# Altium schematic symbol library parts.SCHLIB: 13 symbols
Pins are listed as number, name and electrical type; pins without a type are passive.

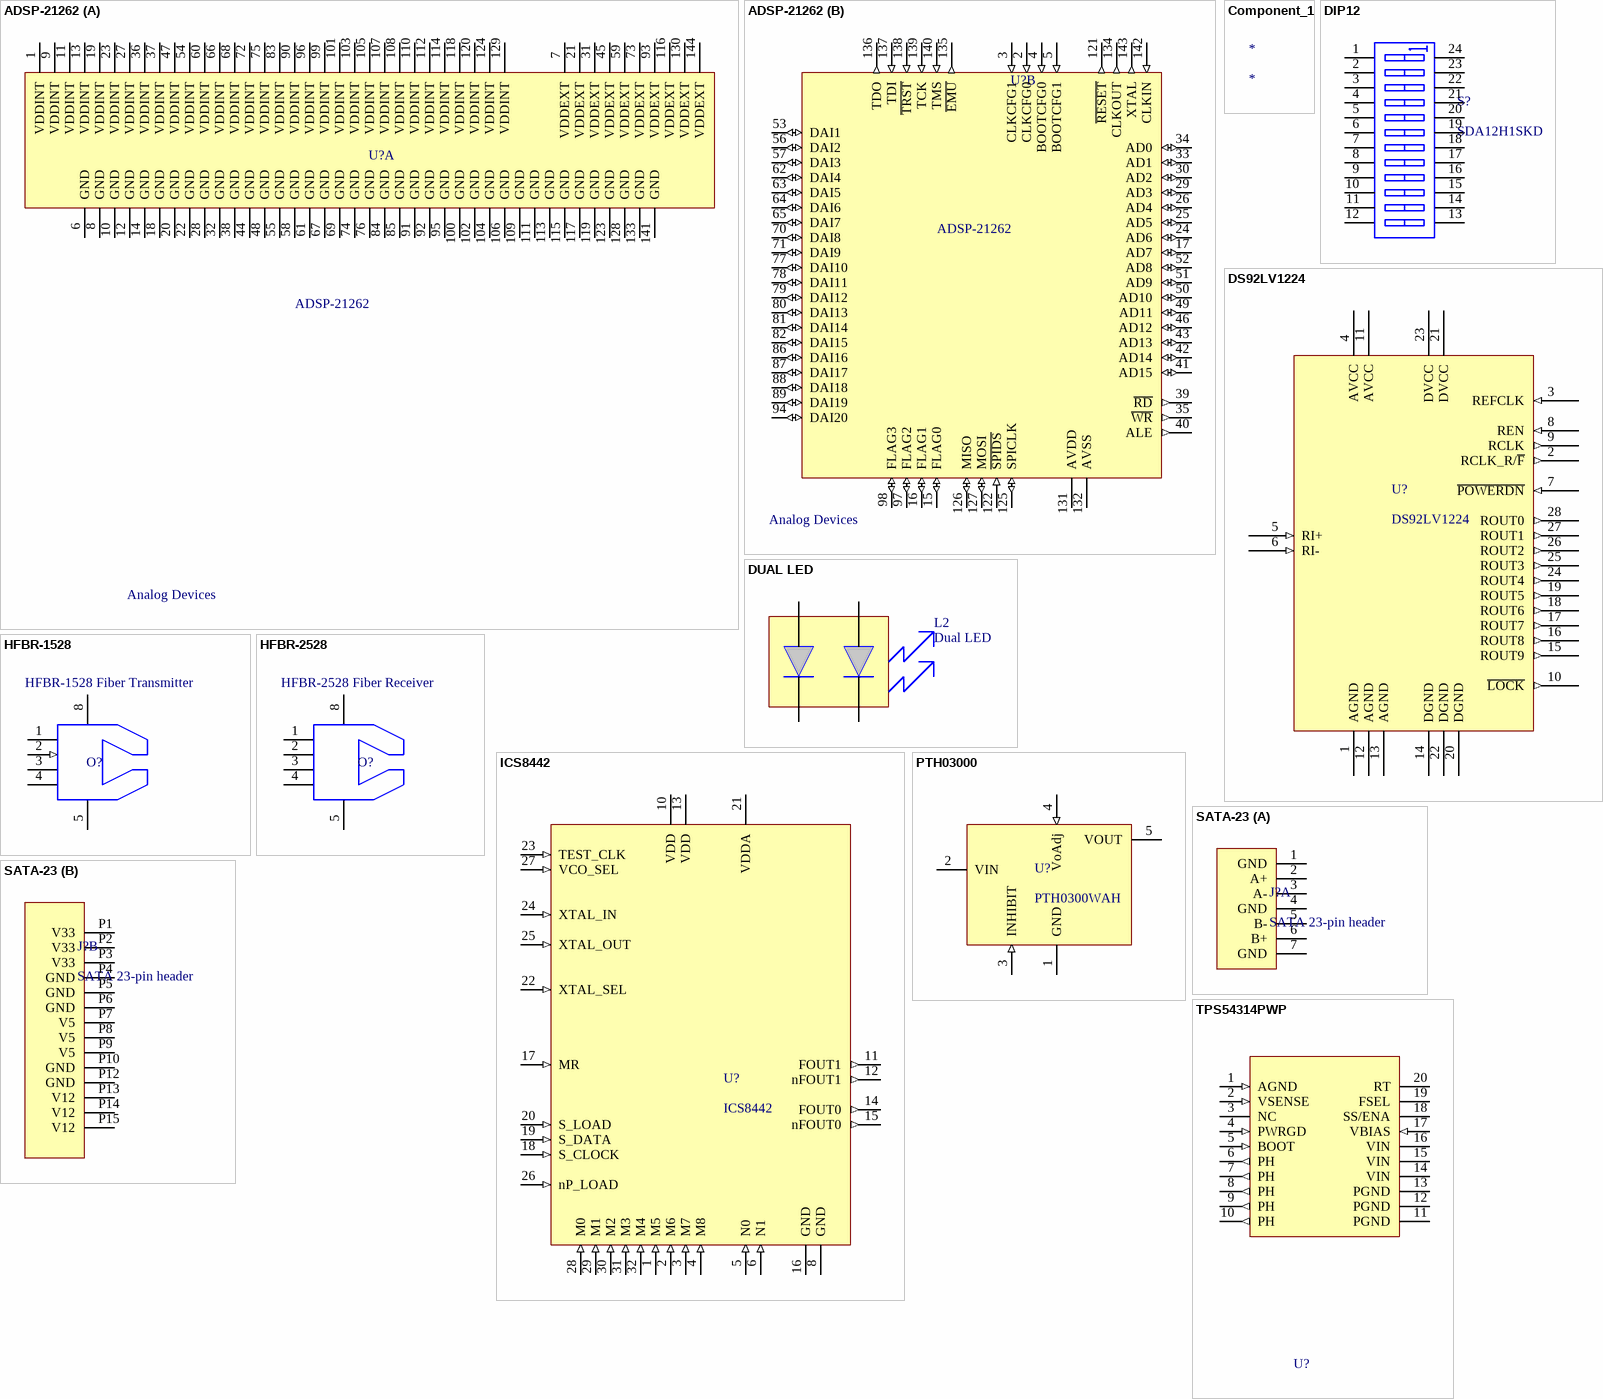
[diagram p0: symbols ADSP-21262 to TPS54314PWP]

## ADSP-21262
designator U?  Vendor: Analog Devices
SHARC 200 MHz 32-bit floating-point SIMD DSP
footprint F-QFP20X20-G144/N
part A pins: 1 VDDINT (power), 6 GND (power), 7 VDDEXT (power), 8 GND (power), 9 VDDINT (power), 10 GND (power), 11 VDDINT (power), 12 GND (power), 13 VDDINT (power), 14 GND (power), 18 GND (power), 19 VDDINT (power), 20 GND (power), 21 VDDEXT (power), 22 GND (power), 23 VDDINT (power), 27 VDDINT (power), 28 GND (power), 31 VDDEXT (power), 32 GND (power), 36 VDDINT (power), 37 VDDINT (power), 38 GND (power), 44 GND (power), 45 VDDEXT (power), 47 VDDINT (power), 48 GND (power), 54 VDDINT (power), 55 GND (power), 58 GND (power), 59 VDDEXT (power), 60 VDDINT (power), 61 GND (power), 66 VDDINT (power), 67 GND (power), 68 VDDINT (power), 69 GND (power), 72 VDDINT (power), 73 VDDEXT (power), 74 GND (power), 75 VDDINT (power), 76 GND (power), 83 VDDINT (power), 84 GND (power), 85 GND (power), 90 VDDINT (power), 91 GND (power), 92 GND (power), 93 VDDEXT (power), 95 GND (power), 96 VDDINT (power), 99 VDDINT (power), 100 GND (power), 101 VDDINT (power), 102 GND (power), 103 VDDINT (power), 104 GND (power), 105 VDDINT (power), 106 GND (power), 107 VDDINT (power), 108 VDDINT (power), 109 GND (power), 110 VDDINT (power), 111 GND (power), 112 VDDINT (power), 113 GND (power), 114 VDDINT (power), 115 GND (power), 116 VDDEXT (power), 117 GND (power), 118 VDDINT (power), 119 GND (power), 120 VDDINT (power), 123 GND (power), 124 VDDINT (power), 128 GND (power), 129 VDDINT (power), 130 VDDEXT (power), 133 GND (power), 141 GND (power), 144 VDDEXT (power)
part B pins: 2 CLKCFG0 (in), 3 CLKCFG1 (in), 4 BOOTCFG0 (in), 5 BOOTCFG1 (in), 15 FLAG0 (io), 16 FLAG1 (io), 17 AD7 (io), 24 AD6 (io), 25 AD5 (io), 26 AD4 (io), 29 AD3 (io), 30 AD2 (io), 33 AD1 (io), 34 AD0 (io), 35 ~{WR} (out), 39 ~{RD} (out), 40 ALE (out), 41 AD15 (io), 42 AD14 (io), 43 AD13 (io), 46 AD12 (io), 49 AD11 (io), 50 AD10 (io), 51 AD9 (io), 52 AD8 (io), 53 DAI1 (io), 56 DAI2 (io), 57 DAI3 (io), 62 DAI4 (io), 63 DAI5 (io), 64 DAI6 (io), 65 DAI7 (io), 70 DAI8 (io), 71 DAI9 (io), 77 DAI10 (io), 78 DAI11 (io), 79 DAI12 (io), 80 DAI13 (io), 81 DAI14 (io), 82 DAI15 (io), 86 DAI16 (io), 87 DAI17 (io), 88 DAI18 (io), 89 DAI19 (io), 94 DAI20 (io), 97 FLAG2 (io), 98 FLAG3 (io), 121 ~{RESET} (out), 122 ~{SPIDS} (in), 125 SPICLK (io), 126 MISO (io), 127 MOSI (io), 131 AVDD (power), 132 AVSS (power), 134 CLKOUT (out), 135 ~{EMU} (out), 136 TDO (out), 137 TDI (in), 138 ~{TRST} (in), 139 TCK (in), 140 TMS (in), 142 CLKIN (in), 143 XTAL (out)

## Component_1
designator *

## DIP12
designator S?, comment SDA12H1SKD
pins: 1 A1, 2 A2, 3 A3, 4 A4, 5 A5, 6 A6, 7 A7, 8 A8, 9 A9, 10 A10, 11 A11, 12 A12, 13 B12, 14 B11, 15 B10, 16 B9, 17 B8, 18 B7, 19 B6, 20 B5, 21 B4, 22 B3, 23 B2, 24 B1

## DS92LV1224
designator U?
30-66 MHz 10-Bit Bus LVDS Deserializer
footprint SSO-G28/E4.3 (SSOP; 28 Leads; Body Width 5.3 mm; Pitch 0.65 mm)
pins: 1 AGND (power), 2 RCLK_R/~{F} (out), 3 REFCLK (in), 4 AVCC (power), 5 RI+ (in), 6 RI- (in), 7 ~{POWERDN} (in), 8 REN (in), 9 RCLK (out), 10 ~{LOCK} (out), 11 AVCC (power), 12 AGND (power), 13 AGND (power), 14 DGND (power), 15 ROUT9 (out), 16 ROUT8 (out), 17 ROUT7 (out), 18 ROUT6 (out), 19 ROUT5 (out), 20 DGND (power), 21 DVCC (power), 22 DGND (power), 23 DVCC (power), 24 ROUT4 (out), 25 ROUT3 (out), 26 ROUT2 (out), 27 ROUT1 (out), 28 ROUT0 (out)

## DUAL LED
designator L2, comment Dual LED
footprint LUMEX DUAL RT-ANG LED (Lumex Dual Right-angle LED holder for part SSF-LXH2100XX)
pins: 1 A1, 2, 3 A2, 4 C2

## HFBR-1528
designator O?, comment HFBR-1528 Fiber Transmitter
Low-cost fiber transmitter; Vendor: Agilent
footprint HPVL
pins: 1 (power), 2 (in), 3 (power), 4 (power), 5 (power), 8 (power)

## HFBR-2528
designator O?, comment HFBR-2528 Fiber Receiver
Low-cost fiber receiver; Vendor: Agilent
footprint HPVL
pins: 1 (power), 2 (power), 3 (power), 4 (power), 5 (power), 8 (power)

## ICS8442
designator U?
700 MHx Crystal Oscillator-todifferential LVDS Freq Synth
footprint QFP7x7-G32/N (32-Pin Plastic Thin Quad Flat Pack (TFQP))
pins: 1 M5 (in), 2 M6 (in), 3 M7 (in), 4 M8 (in), 5 N0 (in), 6 N1 (in), 8 GND (power), 10 VDD (power), 11 FOUT1 (out), 12 nFOUT1 (out), 13 VDD (power), 14 FOUT0 (out), 15 nFOUT0 (out), 16 GND (power), 17 MR (in), 18 S_CLOCK (in), 19 S_DATA (in), 20 S_LOAD (in), 21 VDDA (power), 22 XTAL_SEL (in), 23 TEST_CLK (in), 24 XTAL_IN (in), 25 XTAL_OUT (in), 26 nP_LOAD (in), 27 VCO_SEL (in), 28 M0 (in), 29 M1 (in), 30 M2 (in), 31 M3 (in), 32 M4 (in)

## PTH03000
designator U?, comment PTH0300WAH
footprint TI EUS (Package for TI PTH03000W)
pins: 1 GND (power), 2 VIN (power), 3 INHIBIT (in), 4 VoAdj (in), 5 VOUT (power)

## SATA-23
designator J?, comment SATA 23-pin header
footprint MOLEX 87713-1001 (Molex Serial ATA Backplane Std. Height)
part A pins: 1 GND, 2 A+, 3 A-, 4 GND, 5 B-, 6 B+, 7 GND
part B pins: P1 V33, P2 V33, P3 V33, P4 GND, P5 GND, P6 GND, P7 V5, P8 V5, P9 V5, P10 GND, P12 GND, P13 V12, P14 V12, P15 V12

## TPS54314PWP
designator U?
3-6V input 3A out Buck converter
footprint PWP PowerPad -20
pins: 1 AGND (in), 2 VSENSE (in), 3 NC, 4 PWRGD (in), 5 BOOT (in), 6 PH (out), 7 PH (out), 8 PH (out), 9 PH (out), 10 PH (out), 11 PGND (power), 12 PGND (power), 13 PGND (power), 14 VIN (power), 15 VIN (power), 16 VIN (power), 17 VBIAS (in), 18 SS/ENA, 19 FSEL, 20 RT, P0 (power) hidden to GND, P1 (power) hidden to GND, P2 (power) hidden to GND, P3 (power) hidden to GND, P4 (power) hidden to GND, P5 (power) hidden to GND, P6 (power) hidden to GND, P7 (power) hidden to GND, P8 (power) hidden to GND, P9 (power) hidden to GND, P10 (power) hidden to GND

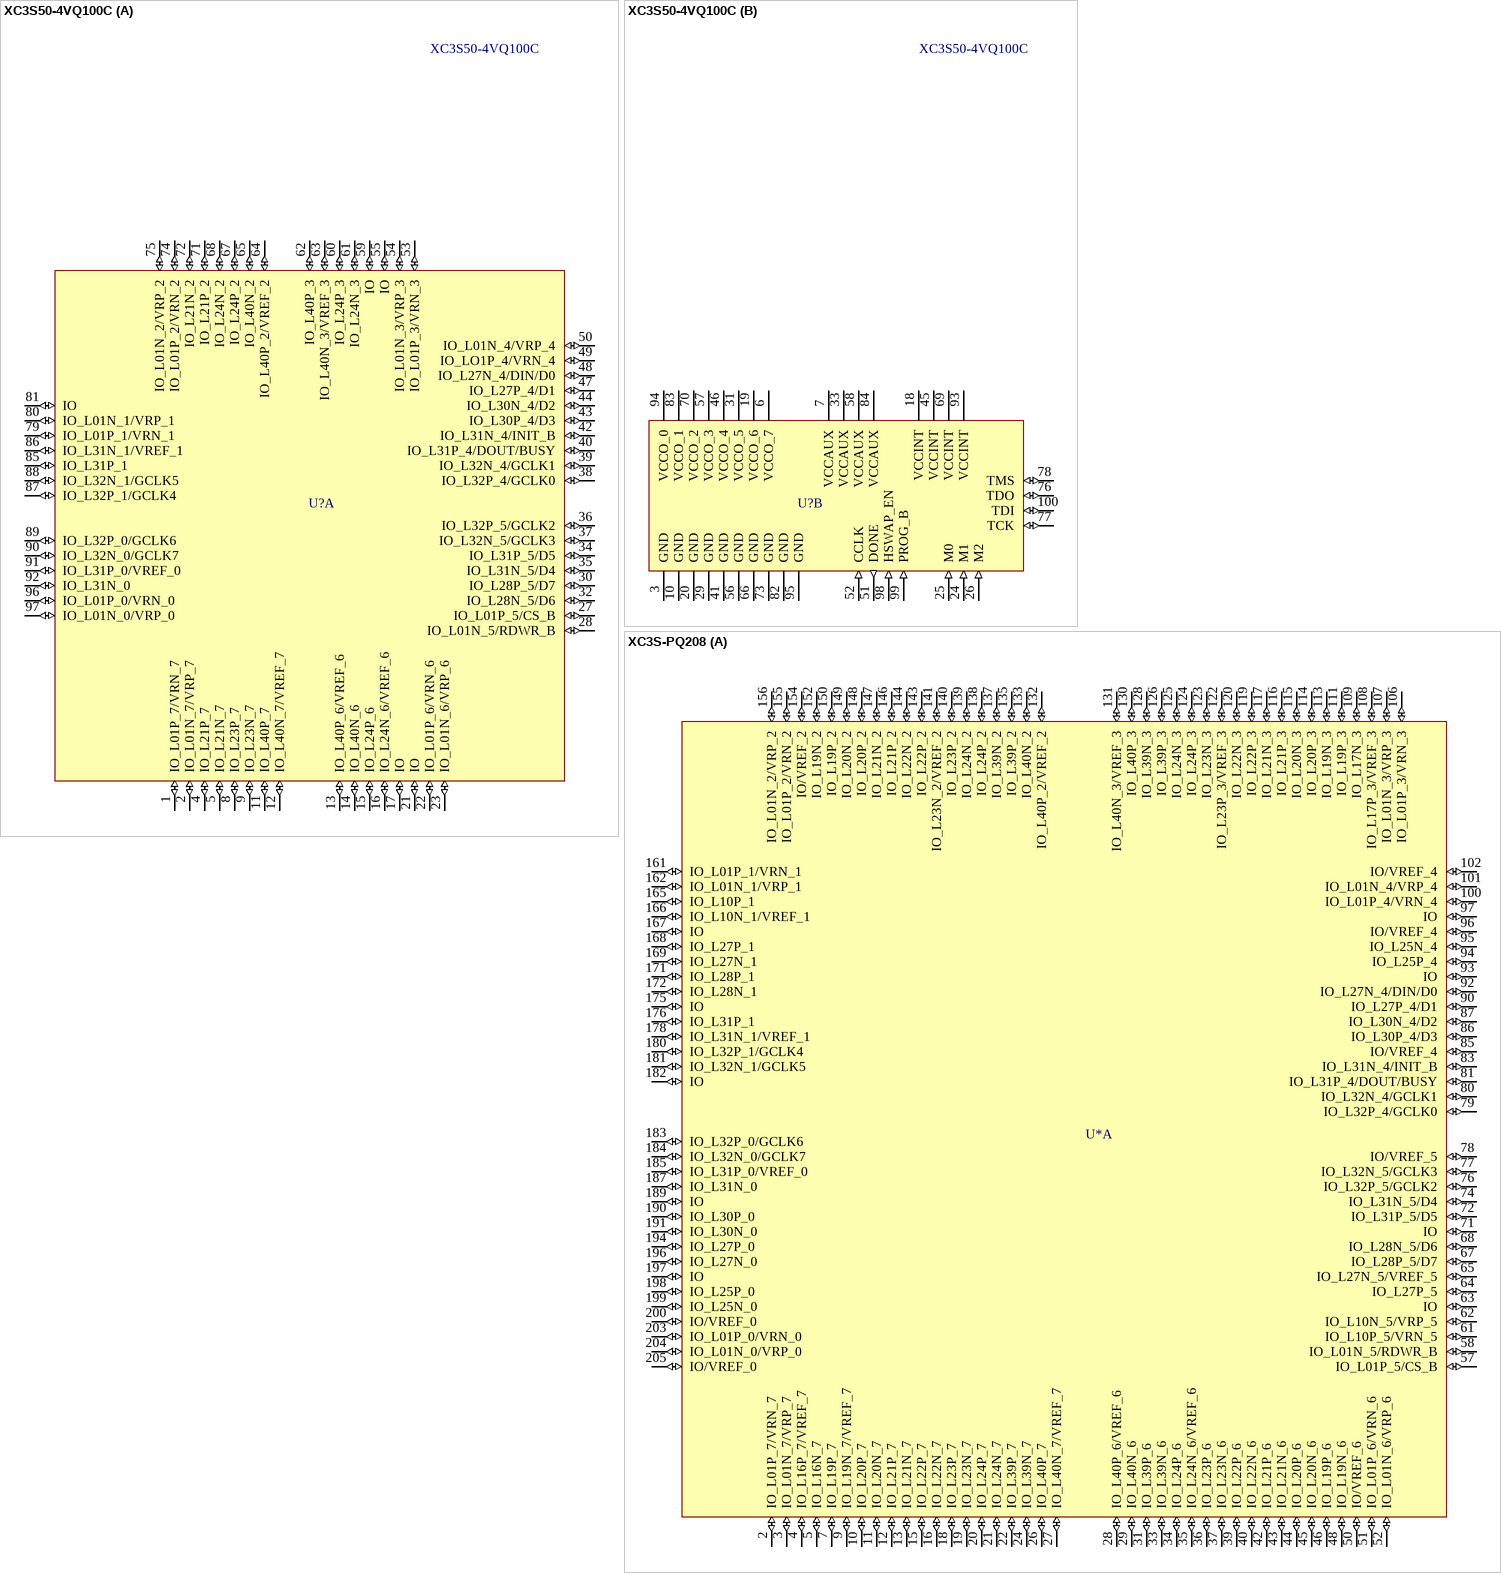
[diagram p1: symbols XC3S50-4VQ100C to XC3S-PQ208]

## XC3S50-4VQ100C
designator U?
Xilinx Spartan-3 VQ100; Vendor: Xilinx
footprint F-QFP14X14-G100/N
part A pins: 1 IO_L01P_7/VRN_7 (io), 2 IO_L01N_7/VRP_7 (io), 4 IO_L21P_7 (io), 5 IO_L21N_7 (io), 8 IO_L23P_7 (io), 9 IO_L23N_7 (io), 11 IO_L40P_7 (io), 12 IO_L40N_7/VREF_7 (io), 13 IO_L40P_6/VREF_6 (io), 14 IO_L40N_6 (io), 15 IO_L24P_6 (io), 16 IO_L24N_6/VREF_6 (io), 17 IO (io), 21 IO (io), 22 IO_L01P_6/VRN_6 (io), 23 IO_L01N_6/VRP_6 (io), 27 IO_L01P_5/CS_B (io), 28 IO_L01N_5/RDWR_B (io), 30 IO_L28P_5/D7 (io), 32 IO_L28N_5/D6 (io), 34 IO_L31P_5/D5 (io), 35 IO_L31N_5/D4 (io), 36 IO_L32P_5/GCLK2 (io), 37 IO_L32N_5/GCLK3 (io), 38 IO_L32P_4/GCLK0 (io), 39 IO_L32N_4/GCLK1 (io), 40 IO_L31P_4/DOUT/BUSY (io), 42 IO_L31N_4/INIT_B (io), 43 IO_L30P_4/D3 (io), 44 IO_L30N_4/D2 (io), 47 IO_L27P_4/D1 (io), 48 IO_L27N_4/DIN/D0 (io), 49 IO_LO1P_4/VRN_4 (io), 50 IO_L01N_4/VRP_4 (io), 53 IO_L01P_3/VRN_3 (io), 54 IO_L01N_3/VRP_3 (io), 55 IO (io), 59 IO (io), 60 IO_L24P_3 (io), 61 IO_L24N_3 (io), 62 IO_L40P_3 (io), 63 IO_L40N_3/VREF_3 (io), 64 IO_L40P_2/VREF_2 (io), 65 IO_L40N_2 (io), 67 IO_L24P_2 (io), 68 IO_L24N_2 (io), 71 IO_L21P_2 (io), 72 IO_L21N_2 (io), 74 IO_L01P_2/VRN_2 (io), 75 IO_L01N_2/VRP_2 (io), 79 IO_L01P_1/VRN_1 (io), 80 IO_L01N_1/VRP_1 (io), 81 IO (io), 85 IO_L31P_1 (io), 86 IO_L31N_1/VREF_1 (io), 87 IO_L32P_1/GCLK4 (io), 88 IO_L32N_1/GCLK5 (io), 89 IO_L32P_0/GCLK6 (io), 90 IO_L32N_0/GCLK7 (io), 91 IO_L31P_0/VREF_0 (io), 92 IO_L31N_0 (io), 96 IO_L01P_0/VRN_0 (io), 97 IO_L01N_0/VRP_0 (io)
part B pins: 3 GND (power), 6 VCCO_7 (power), 7 VCCAUX (power), 10 GND (power), 18 VCCINT (power), 19 VCCO_6 (power), 20 GND (power), 24 M1 (in), 25 M0 (in), 26 M2 (in), 29 GND (power), 31 VCCO_5 (power), 33 VCCAUX (power), 41 GND (power), 45 VCCINT (power), 46 VCCO_4 (power), 51 DONE (out), 52 CCLK (in), 56 GND (power), 57 VCCO_3 (power), 58 VCCAUX (power), 66 GND (power), 69 VCCINT (power), 70 VCCO_2 (power), 73 GND (power), 76 TDO (io), 77 TCK (io), 78 TMS (io), 82 GND (power), 83 VCCO_1 (power), 84 VCCAUX (power), 93 VCCINT (power), 94 VCCO_0 (power), 95 GND (power), 98 HSWAP_EN (in), 99 PROG_B (in), 100 TDI (io)

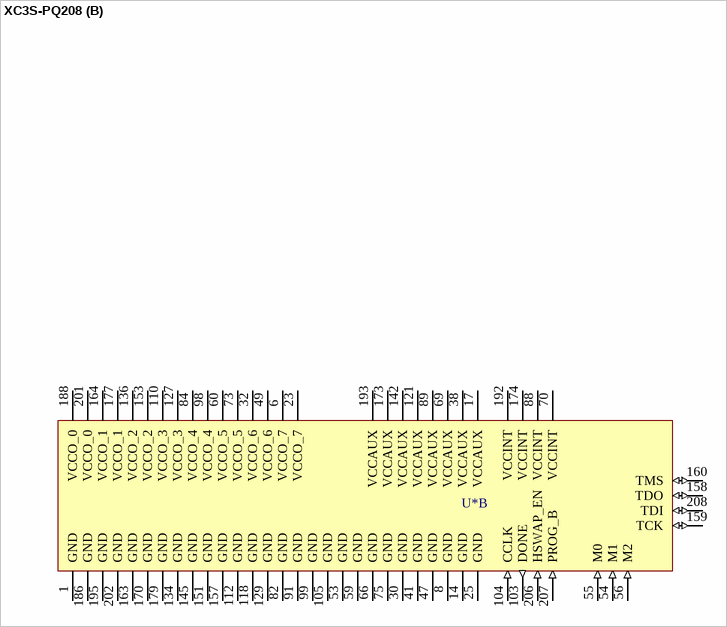
[diagram p2: symbol XC3S-PQ208]

## XC3S-PQ208
designator U*
Xilinx Spartan-3 PQ208
footprint F-QFP28X28-G208/Z32N
part A pins: 2 IO_L01P_7/VRN_7 (io), 3 IO_L01N_7/VRP_7 (io), 4 IO_L16P_7/VREF_7 (io), 5 IO_L16N_7 (io), 7 IO_L19P_7 (io), 9 IO_L19N_7/VREF_7 (io), 10 IO_L20P_7 (io), 11 IO_L20N_7 (io), 12 IO_L21P_7 (io), 13 IO_L21N_7 (io), 15 IO_L22P_7 (io), 16 IO_L22N_7 (io), 18 IO_L23P_7 (io), 19 IO_L23N_7 (io), 20 IO_L24P_7 (io), 21 IO_L24N_7 (io), 22 IO_L39P_7 (io), 24 IO_L39N_7 (io), 26 IO_L40P_7 (io), 27 IO_L40N_7/VREF_7 (io), 28 IO_L40P_6/VREF_6 (io), 29 IO_L40N_6 (io), 31 IO_L39P_6 (io), 33 IO_L39N_6 (io), 34 IO_L24P_6 (io), 35 IO_L24N_6/VREF_6 (io), 36 IO_L23P_6 (io), 37 IO_L23N_6 (io), 39 IO_L22P_6 (io), 40 IO_L22N_6 (io), 42 IO_L21P_6 (io), 43 IO_L21N_6 (io), 44 IO_L20P_6 (io), 45 IO_L20N_6 (io), 46 IO_L19P_6 (io), 48 IO_L19N_6 (io), 50 IO/VREF_6 (io), 51 IO_L01P_6/VRN_6 (io), 52 IO_L01N_6/VRP_6 (io), 57 IO_L01P_5/CS_B (io), 58 IO_L01N_5/RDWR_B (io), 61 IO_L10P_5/VRN_5 (io), 62 IO_L10N_5/VRP_5 (io), 63 IO (io), 64 IO_L27P_5 (io), 65 IO_L27N_5/VREF_5 (io), 67 IO_L28P_5/D7 (io), 68 IO_L28N_5/D6 (io), 71 IO (io), 72 IO_L31P_5/D5 (io), 74 IO_L31N_5/D4 (io), 76 IO_L32P_5/GCLK2 (io), 77 IO_L32N_5/GCLK3 (io), 78 IO/VREF_5 (io), 79 IO_L32P_4/GCLK0 (io), 80 IO_L32N_4/GCLK1 (io), 81 IO_L31P_4/DOUT/BUSY (io), 83 IO_L31N_4/INIT_B (io), 85 IO/VREF_4 (io), 86 IO_L30P_4/D3 (io), 87 IO_L30N_4/D2 (io), 90 IO_L27P_4/D1 (io), 92 IO_L27N_4/DIN/D0 (io), 93 IO (io), 94 IO_L25P_4 (io), 95 IO_L25N_4 (io), 96 IO/VREF_4 (io), 97 IO (io), 100 IO_L01P_4/VRN_4 (io), 101 IO_L01N_4/VRP_4 (io), 102 IO/VREF_4 (io), 106 IO_L01P_3/VRN_3 (io), 107 IO_L01N_3/VRP_3 (io), 108 IO_L17P_3/VREF_3 (io), 109 IO_L17N_3 (io), 111 IO_L19P_3 (io), 113 IO_L19N_3 (io), 114 IO_L20P_3 (io), 115 IO_L20N_3 (io), 116 IO_L21P_3 (io), 117 IO_L21N_3 (io), 119 IO_L22P_3 (io), 120 IO_L22N_3 (io), 122 IO_L23P_3/VREF_3 (io), 123 IO_L23N_3 (io), 124 IO_L24P_3 (io), 125 IO_L24N_3 (io), 126 IO_L39P_3 (io), 128 IO_L39N_3 (io), 130 IO_L40P_3 (io), 131 IO_L40N_3/VREF_3 (io), 132 IO_L40P_2/VREF_2 (io), 133 IO_L40N_2 (io), 135 IO_L39P_2 (io), 137 IO_L39N_2 (io), 138 IO_L24P_2 (io), 139 IO_L24N_2 (io), 140 IO_L23P_2 (io), 141 IO_L23N_2/VREF_2 (io), 143 IO_L22P_2 (io), 144 IO_L22N_2 (io), 146 IO_L21P_2 (io), 147 IO_L21N_2 (io), 148 IO_L20P_2 (io), 149 IO_L20N_2 (io), 150 IO_L19P_2 (io), 152 IO_L19N_2 (io), 154 IO/VREF_2 (io), 155 IO_L01P_2/VRN_2 (io), 156 IO_L01N_2/VRP_2 (io), 161 IO_L01P_1/VRN_1 (io), 162 IO_L01N_1/VRP_1 (io), 165 IO_L10P_1 (io), 166 IO_L10N_1/VREF_1 (io), 167 IO (io), 168 IO_L27P_1 (io), 169 IO_L27N_1 (io), 171 IO_L28P_1 (io), 172 IO_L28N_1 (io), 175 IO (io), 176 IO_L31P_1 (io), 178 IO_L31N_1/VREF_1 (io), 180 IO_L32P_1/GCLK4 (io), 181 IO_L32N_1/GCLK5 (io), 182 IO (io), 183 IO_L32P_0/GCLK6 (io), 184 IO_L32N_0/GCLK7 (io), 185 IO_L31P_0/VREF_0 (io), 187 IO_L31N_0 (io), 189 IO (io), 190 IO_L30P_0 (io), 191 IO_L30N_0 (io), 194 IO_L27P_0 (io), 196 IO_L27N_0 (io), 197 IO (io), 198 IO_L25P_0 (io), 199 IO_L25N_0 (io), 200 IO/VREF_0 (io), 203 IO_L01P_0/VRN_0 (io), 204 IO_L01N_0/VRP_0 (io), 205 IO/VREF_0 (io)
part B pins: 1 GND (power), 6 VCCO_7 (power), 8 GND (power), 14 GND (power), 17 VCCAUX (power), 23 VCCO_7 (power), 25 GND (power), 30 GND (power), 32 VCCO_6 (power), 38 VCCAUX (power), 41 GND (power), 47 GND (power), 49 VCCO_6 (power), 53 GND (power), 54 M1 (in), 55 M0 (in), 56 M2 (in), 59 GND (power), 60 VCCO_5 (power), 66 GND (power), 69 VCCAUX (power), 70 VCCINT (power), 73 VCCO_5 (power), 75 GND (power), 82 GND (power), 84 VCCO_4 (power), 88 VCCINT (power), 89 VCCAUX (power), 91 GND (power), 98 VCCO_4 (power), 99 GND (power), 103 DONE (out), 104 CCLK (in), 105 GND (power), 110 VCCO_3 (power), 112 GND (power), 118 GND (power), 121 VCCAUX (power), 127 VCCO_3 (power), 129 GND (power), 134 GND (power), 136 VCCO_2 (power), 142 VCCAUX (power), 145 GND (power), 151 GND (power), 153 VCCO_2 (power), 157 GND (power), 158 TDO (io), 159 TCK (io), 160 TMS (io), 163 GND (power), 164 VCCO_1 (power), 170 GND (power), 173 VCCAUX (power), 174 VCCINT (power), 177 VCCO_1 (power), 179 GND (power), 186 GND (power), 188 VCCO_0 (power), 192 VCCINT (power), 193 VCCAUX (power), 195 GND (power), 201 VCCO_0 (power), 202 GND (power), 206 HSWAP_EN (in), 207 PROG_B (in), 208 TDI (io)